# Altium footprint library UFL-R-SMT-1.PcbLib: 1 footprints
Each footprint in its own frame and in the unit in brackets; x right, y up, seen from the top. Pads: shape width x height; smd on the part's side, far side on the other; paste and mask are expansions set on the pad; w line width, h text height; cw(c..) or ccw(c..) is an arc to the next point about the centre after c.
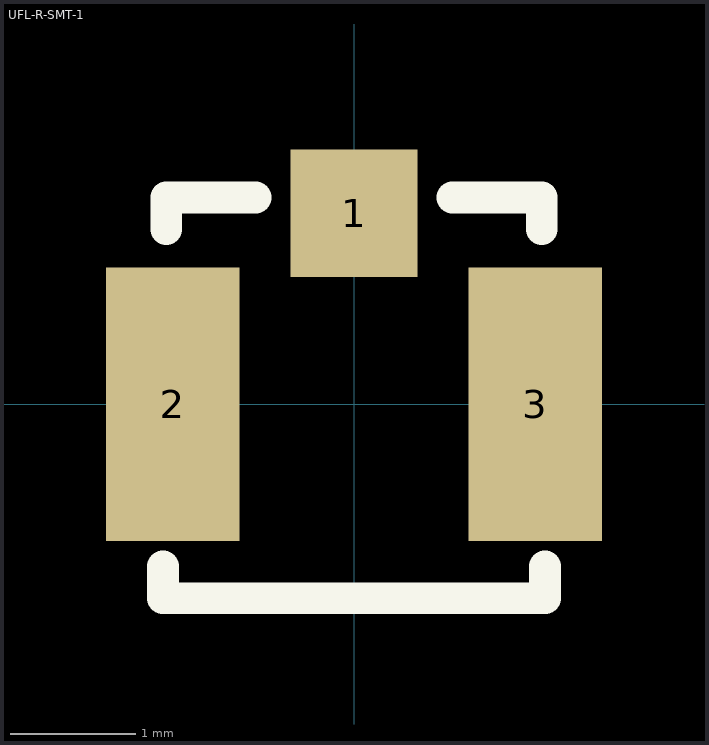
[diagram p0: the footprint, top view; thin cyan lines are the x and y axes]

## UFL-R-SMT-1 [mil]
pads (3):
  rect 40x40 smd: 1(0,60)
  rect 42x86 smd: 2(-57,0) 3(57,0)
Top Overlay:
  lines w10: -60,-51 -60,-61 0,-61 60,-61 60,-51 ; -59,55 -59,65 -31,65 ; 31,65 59,65 59,55
3D body: height 49.21, standoff -0.39, extent -59.05,-61.02 59.06,61.03